# EAGLE library part DISPLAY_TUBES_IV-9 (library clock_kit)
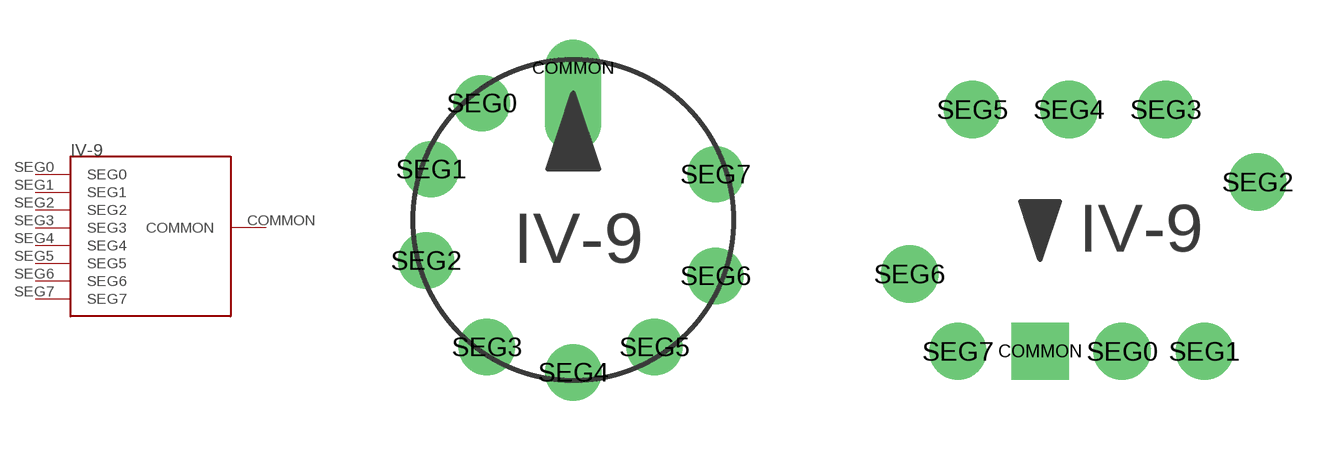
[diagram p3: symbol with the pads of DISPLAY_TUBES_IV-9; footprints DISPLAY_TUBES_IV-9, DISPLAY_TUBES_IV-9_MODIFIED]

Designator prefix -

## DISPLAY_TUBES_IV-9  [DISPLAY_TUBES_IV-9]
COMMON  COMMON
SEG0  SEG0
SEG1  SEG1
SEG2  SEG2
SEG3  SEG3
SEG4  SEG4
SEG5  SEG5
SEG6  SEG6
SEG7  SEG7

## DISPLAY_TUBES_IV-9MODIFIED  [DISPLAY_TUBES_IV-9_MODIFIED]
Pads as for DISPLAY_TUBES_IV-9

## Footprint DISPLAY_TUBES_IV-9 (pad centres in mm)
drill 0.9 offset: COMMON 0,3.81
drill 0.9 round: SEG0 -2.286,2.921; SEG1 -3.556,1.27; SEG2 -3.683,-1.016; SEG3 -2.159,-3.175; SEG4 0,-3.81; SEG5 2.032,-3.175; SEG6 3.556,-1.397; SEG7 3.556,1.143

## Footprint DISPLAY_TUBES_IV-9_MODIFIED (pad centres in mm)
drill 1 square: COMMON -1.397,-3.81
drill 1 round: SEG0 0.762,-3.81; SEG1 2.921,-3.81; SEG2 4.318,0.635; SEG3 1.905,2.54; SEG4 -0.635,2.54; SEG5 -3.175,2.54; SEG6 -4.826,-1.778; SEG7 -3.556,-3.81